# Altium schematic symbol library DMP3017SFG.Schlib: 1 symbol
Pins are listed as number, name and electrical type; pins without a type are passive.

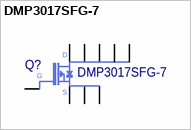
[diagram p0: symbol DMP3017SFG-7]

## DMP3017SFG-7
designator Q?
pins: 1 S, 2 S, 3 S, 4 G, 5 D, 6 D, 7 D, 8 D, 9 D